# Altium footprint library Hub.PcbLib: 20 footprints (part 1 of 2)
Each footprint in its own frame and in the unit in brackets; x right, y up, seen from the top. Pads: shape width x height; smd on the part's side, far side on the other; paste and mask are expansions set on the pad; w line width, h text height; cw(c..) or ccw(c..) is an arc to the next point about the centre after c.
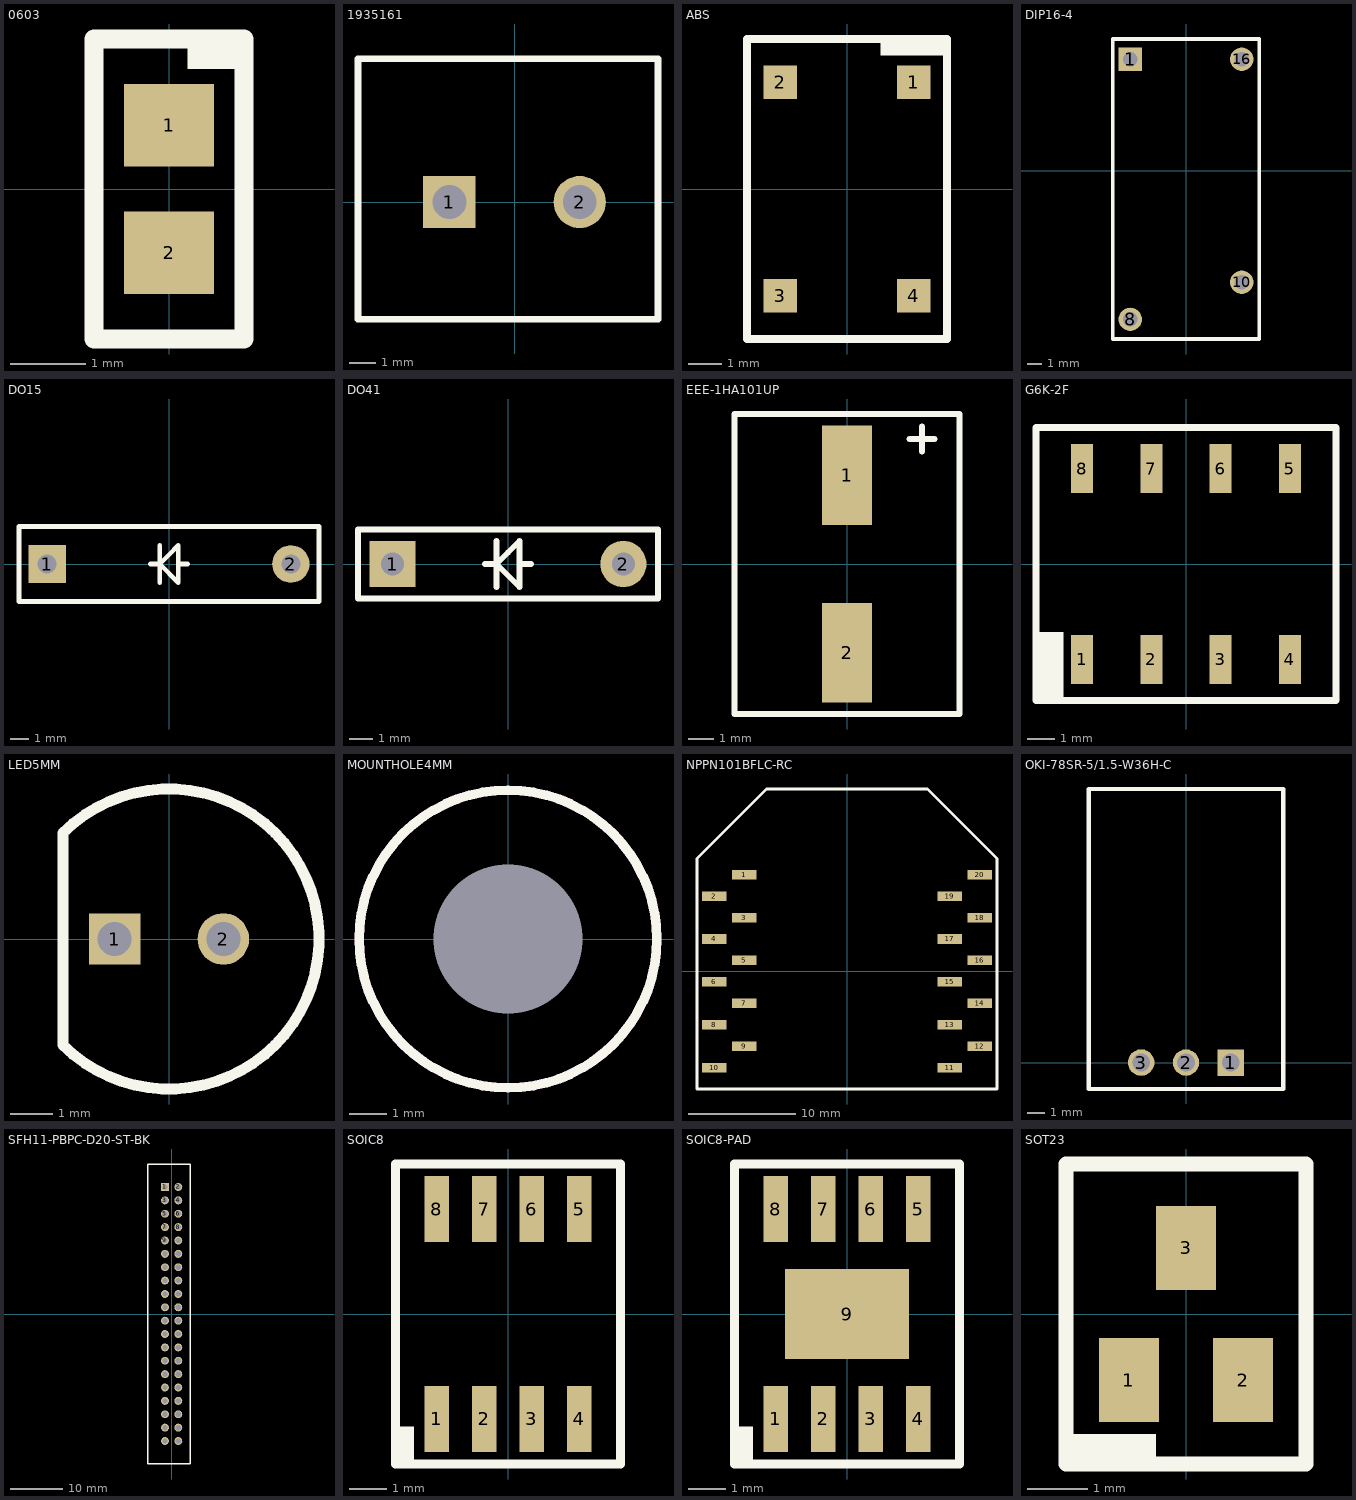
[diagram p0: the footprints below, top view; thin cyan lines are the x and y axes]

## 0603 [mm]
pads (2):
  rect 1.2x1.1 smd: 1(0,0.85) 2(0,-0.85)
Top Overlay:
  rectangle: 0.25,1.6 1,2
  lines w0.25: -1,-2 1,-2 1,2 -1,2 -1,-2
3D body "RES0603.STEP": height 0.44, standoff -0.02, extent -0.43,-0.775 0.43,0.775

## 1935161 [mm]
pads (2):
  rect 2x2 hole 1.3: 1(-2.5,0)
  round 2 hole 1.3: 2(2.5,0)
Top Overlay:
  lines w0.25: -6,-4.5 -6,5.5 5.5,5.5 5.5,-4.5 -6,-4.5
3D body "1935161_03.stp": height 11.4, standoff -3.5, extent -5.585,-4 4.985,5

## ABS [mm]
pads (4):
  rect 1x1 smd: 1(2,3.2) 2(-2,3.2) 3(-2,-3.2) 4(2,-3.2)
Top Overlay:
  rectangle: 1,4 3,4.5
  lines w0.25: -3,-4.5 3,-4.5 3,4.5 -3,4.5 -3,-4.5
3D body "ABS.step": height 1.42, standoff -0.04, extent -2.5,-3.06 2.5,3.06

## DIP16-4 [mm]
pads (4):
  rect 1.6x1.6 hole 1: 1(-3.81,7.62)
  round 1.6 hole 1: 8(-3.81,-10.16) 10(3.81,-7.62) 16(3.81,7.62)
Top Overlay:
  lines w0.25: -5,-11.5 5,-11.5 5,9 -5,9 -5,-11.5
3D body "DIP16-4.stp": height 3.79, standoff -3.06, extent -4.264,-11.05 4.264,8.45

## DO15 [mm]
pads (2):
  rect 2x2 hole 1: 1(-6.5,0)
  round 2 hole 1: 2(6.5,0)
Top Overlay:
  lines w0.25: -1,0 -0.5,0 ; -0.5,-1 -0.5,1 ; 0.5,0 1,0 ; -0.5,0 0,0.5 0.5,1 0.5,-1 ; -0.5,0 -0.5,0 ; -0.5,0 0.5,-1 ; 0.5,-1 0.5,-1 ; -8,-2 8,-2 8,2 -8,2 -8,-2
3D body "DO15.STEP": height 5.62, standoff 0, extent -6.807,-1.82 6.807,1.82

## DO41 [mm]
pads (2):
  rect 2x2 hole 1: 1(-5,0)
  round 2 hole 1: 2(5,0)
Top Overlay:
  lines w0.25: -1,0 -0.5,0 ; -0.5,-1 -0.5,1 ; 0.5,0 1,0 ; -0.5,0 0,0.5 0.5,1 0.5,-1 ; -0.5,0 -0.5,0 ; -0.5,0 0.5,-1 ; 0.5,-1 0.5,-1 ; -6.5,-1.5 6.5,-1.5 6.5,1.5 -6.5,1.5 -6.5,-1.5
3D body "do-41.STEP": height 3.01, standoff -1.5, extent -5.4,-1.005 5.4,1.005

## EEE-1HA101UP [mm]
pads (2):
  rect 2x4 smd: 1(0,3.55) 2(0,-3.55)
Top Overlay:
  lines w0.25: 2.5,5 3.5,5 ; 3,4.5 3,5.5 ; -4.5,-6 4.5,-6 4.5,6 -4.5,6 -4.5,-6
3D body "EEE-1HA101UP.STEP": height 10.21, standoff -0.01, extent -4.15,-4.95 4.15,4.95

## G6K-2F [mm]
pads (8):
  rect 0.8x1.8 smd: 1(-3.81,-3.5) 2(-1.27,-3.5) 3(1.27,-3.5) 4(3.81,-3.5) 5(3.81,3.5) 6(1.27,3.5) 7(-1.27,3.5) 8(-3.81,3.5)
Top Overlay:
  rectangle: -5.5,-5 -4.5,-2.5
  lines w0.25: -5.5,-5 -5.5,5 5.5,5 5.5,-5 -5.5,-5
3D body "G6K_2F.step": height 5.2, standoff 0, extent -5,-3.9 5,3.9

## LED5MM [mm]
pads (2):
  rect 1.2x1.2 hole 0.8: 1(-1.27,0)
  round 1.2 hole 0.8: 2(1.27,0)
Top Overlay:
  lines w0.25: -2.475,-2.475 -2.475,2.475
  lines w0.254: -2.475,-2.475 ccw(c0,0) -2.475,2.475
3D body "LED5MM.STEP": height 13.6, standoff -20, extent -2.575,-2.947 2.875,2.947

## MOUNTHOLE4MM [mm]
pads (1):
  round 0 hole 4 unplated: ""(0,0)
Top Overlay:
  circle w0.254: c0,0 r4
Bottom Overlay:
  circle w0.254: c0,0 r4.031
Keep-Out Layer:
  circle w0.254: c0,0 r4

## NPPN101BFLC-RC [mm]
pads (20):
  rect 2.29x0.89 smd: 1(-9.605,9) 2(-12.395,7) 3(-9.605,5) 4(-12.395,3) 5(-9.605,1) 6(-12.395,-1) 7(-9.605,-3) 8(-12.395,-5) 9(-9.605,-7) 10(-12.395,-9) 11(9.605,-9) 12(12.395,-7) 13(9.605,-5) 14(12.395,-3) 15(9.605,-1) 16(12.395,1) 17(9.605,3) 18(12.395,5) 19(9.605,7) 20(12.395,9)
Top Overlay:
  lines w0.25: -14,-11 14,-11 14,10.5 7.5,17 4.7,17 -4.7,17 -7.5,17 -14,10.5 -14,-11
3D body "NPPN101BFLC-RC.STEP": height -0.44, standoff -5.04, extent 9.002,-10.25 12.998,10.25
3D body "NPPN101BFLC-RC.STEP": height -0.44, standoff -5.04, extent -12.998,-10.25 -9.002,10.25
3D body: height 3.5, standoff 0, extent -9.605,9 -9.605,9

## OKI-78SR-5/1.5-W36H-C [mm]
pads (3):
  rect 1.5x1.5 hole 1: 1(2.54,0)
  round 1.5 hole 1: 2(0,0) 3(-2.54,0)
Top Overlay:
  lines w0.25: -5.5,-1.5 5.5,-1.5 5.5,15.5 -5.5,15.5 -5.5,-1.5
3D body "OKI-78SR-51.5-W36H-C.step": height 8.25, standoff -4.68, extent -5.207,-1.255 5.207,15.255

## SFH11-PBPC-D20-ST-BK [mm]
pads (40):
  rect 1.5x1.5 hole 1: 1(-1.27,24.13)
  round 1.5 hole 1: 2(1.27,24.13) 3(-1.27,21.59) 4(1.27,21.59) 5(-1.27,19.05) 6(1.27,19.05) 7(-1.27,16.51) 8(1.27,16.51) 9(-1.27,13.97) 10(1.27,13.97) 11(-1.27,11.43) 12(1.27,11.43) 13(-1.27,8.89) 14(1.27,8.89) 15(-1.27,6.35) 16(1.27,6.35) 17(-1.27,3.81) 18(1.27,3.81) 19(-1.27,1.27) 20(1.27,1.27) 21(-1.27,-1.27) 22(1.27,-1.27) 23(-1.27,-3.81) 24(1.27,-3.81) 25(-1.27,-6.35) 26(1.27,-6.35) 27(-1.27,-8.89) 28(1.27,-8.89) 29(-1.27,-11.43) 30(1.27,-11.43) 31(-1.27,-13.97) 32(1.27,-13.97) 33(-1.27,-16.51) 34(1.27,-16.51) 35(-1.27,-19.05) 36(1.27,-19.05) 37(-1.27,-21.59) 38(1.27,-21.59) 39(-1.27,-24.13) 40(1.27,-24.13)
Top Overlay:
  lines w0.25: -4.5,-28.5 -4.5,28.5 3.5,28.5 3.5,-28.5 -4.5,-28.5
Bottom Overlay:
  lines w0.25: -4.5,-28.5 3.5,-28.5 3.5,28.5 -4.5,28.5 -4.5,-28.5
3D body "SFH11-PBPC-D20-ST-BK.STEP": height 2.76, standoff -8.94, extent -4,-27.94 3,27.94

## SOIC8 [mm]
pads (8):
  rect 0.65x1.75 smd: 1(-1.905,-2.8) 2(-0.635,-2.8) 3(0.635,-2.8) 4(1.905,-2.8) 5(1.905,2.8) 6(0.635,2.8) 7(-0.635,2.8) 8(-1.905,2.8)
Top Overlay:
  rectangle: -3,-4 -2.5,-3
  lines w0.25: -3,-4 -3,4 3,4 3,-4 -3,-4
3D body "SIOC8.stp": height 1.95, standoff 0, extent -2.502,-3.099 2.502,3.099

## SOIC8-PAD [mm]
pads (9):
  rect 0.65x1.75 smd: 1(-1.905,-2.8) 2(-0.635,-2.8) 3(0.635,-2.8) 4(1.905,-2.8) 5(1.905,2.8) 6(0.635,2.8) 7(-0.635,2.8) 8(-1.905,2.8)
  rect 3.3x2.41 smd: 9(0,0)
Top Overlay:
  rectangle: -3,-4 -2.5,-3
  lines w0.25: -3,-4 3,-4 3,4 -3,4 -3,-4
3D body "SIOC8.stp": height 1.95, standoff 0, extent -2.502,-3.099 2.502,3.099

## SOT23 [mm]
pads (3):
  rect 1x1.4 smd: 1(-0.95,-1.1) 2(0.95,-1.1) 3(0,1.1)
Top Overlay:
  rectangle: -2,-2.5 -0.5,-2
  lines w0.25: -2,-2.5 2,-2.5 2,2.5 -2,2.5 -2,-2.5
3D body "SOT23.step": height 1.1, standoff 0, extent -1.5,-1.2 1.5,1.2